# Altium schematic symbol library Optoisolators.SchLib: 2 symbols
Pins are listed as number, name and electrical type; pins without a type are passive.

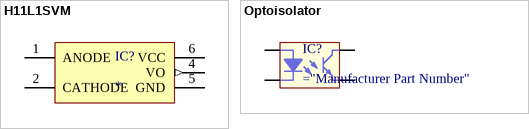
[diagram p0: symbols H11L1SVM to Optoisolator]

## H11L1SVM
designator IC?
Integrated Circuit
footprint H11L1S SOP-6
pins: 1 ANODE, 2 CATHODE, 4 VO (out), 5 GND (power), 6 VCC (power)

## Optoisolator
designator IC?
footprint LITEON LTV-817 (SOP, 4-Leads, Body 4.60x6.50mm, Pitch 2.54mm, IPC Medium Density)
footprint LITEON LTV-357T (SOP, 4-Leads, Body 3.85x4.4mm, Pitch 2.54mm, IPC Medium Density)
footprint EL3H7-VG
pins: 1, 2, 3, 4